# EAGLE library part MCP73861-I/SL (library wheat)
Lithium-Iion Charger MCP73861, SOIC16
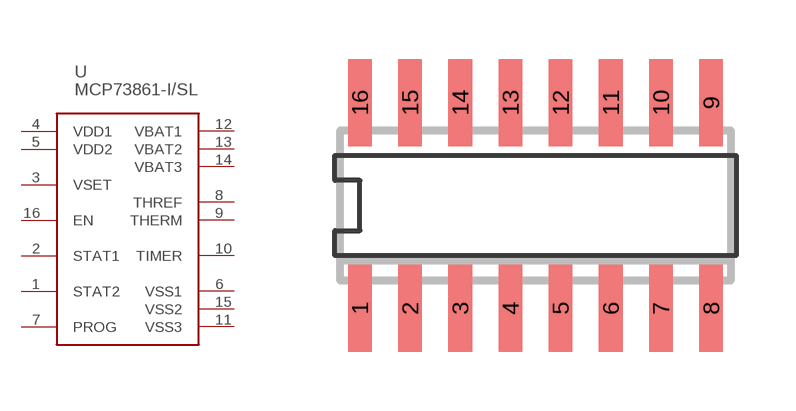
[diagram p57: symbol with the pads of SO16; footprint SO16]

Designator prefix U

## MCP73861-I/SL  [SO16]
1  STAT2  oc
2  STAT1  oc
3  VSET  in
4  VDD1  pwr
5  VDD2  pwr
6  VSS1  pwr
7  PROG  in
8  THREF  out
9  THERM  in
10  TIMER  pas
11  VSS3  pwr
12  VBAT1  pwr
13  VBAT2  pwr
14  VBAT3  pwr
15  VSS2  pwr
16  EN  in

## Footprint SO16 (pad centres in mm)
SO16, NARROW
smd 0.6 x 2.2: 1 -3.81,-2.6; 2 -2.54,-2.6; 3 -1.27,-2.6; 4 0,-2.6; 5 1.27,-2.6; 6 2.54,-2.6; 7 3.81,-2.6; 8 5.08,-2.6; 9 5.08,2.6; 10 3.81,2.6; 11 2.54,2.6; 12 1.27,2.6; 13 0,2.6; 14 -1.27,2.6; 15 -2.54,2.6; 16 -3.81,2.6